# EAGLE library part TPS61081 (library ee_projects)
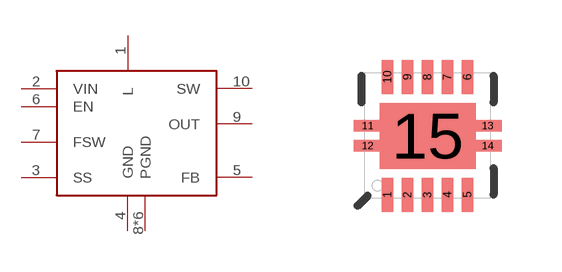
[diagram p2: symbol with the pads of QFN-10_PAD; footprint QFN-10_PAD]

Designator prefix -

## TPS61081  [QFN-10_PAD]
1  L
2  VIN
3  SS
4  GND
5  FB
6  EN
7  FSW
8  PGND
9  OUT
10  SW
11  PGND
12  PGND
13  PGND
14  PGND
15  PGND

## Footprint QFN-10_PAD (pad centres in mm)
smd 0.297 x 0.85: 1 -1,-1.475; 2 -0.5,-1.475; 3 0,-1.475; 4 0.5,-1.475; 5 1,-1.475; 6 1,1.475; 7 0.5,1.475; 8 0,1.475; 9 -0.5,1.475; 10 -1,1.475
smd 0.7 x 0.28: 11 -1.5,0.25; 12 -1.5,-0.25; 13 1.5,0.25; 14 1.5,-0.25
smd 2.4 x 1.65: 15 0,0